# Altium footprint library NMOSFET.PcbLib: 1 footprints
Each footprint in its own frame and in the unit in brackets; x right, y up, seen from the top. Pads: shape width x height; smd on the part's side, far side on the other; paste and mask are expansions set on the pad; w line width, h text height; cw(c..) or ccw(c..) is an arc to the next point about the centre after c.
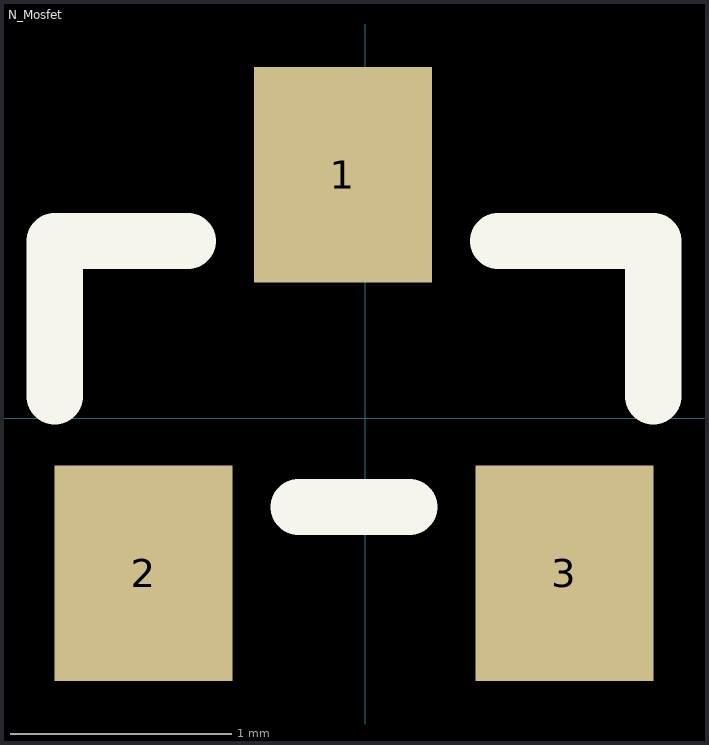
[diagram p0: the footprint, top view; thin cyan lines are the x and y axes]

## N_Mosfet [mm] "IRLML0030"
height 1
pads (3):
  rect 0.802x0.972 smd: 1(-0.1,1.1) 2(-1,-0.7) 3(0.9,-0.7)
Top Overlay:
  lines w0.254: -1.4,0.1 -1.4,0.8 -0.8,0.8 ; -0.3,-0.4 0.2,-0.4 ; 0.6,0.8 1.3,0.8 1.3,0.1